# Altium footprint library SOT-23.PcbLib: 1 footprints
Each footprint in its own frame and in the unit in brackets; x right, y up, seen from the top. Pads: shape width x height; smd on the part's side, far side on the other; paste and mask are expansions set on the pad; w line width, h text height; cw(c..) or ccw(c..) is an arc to the next point about the centre after c.
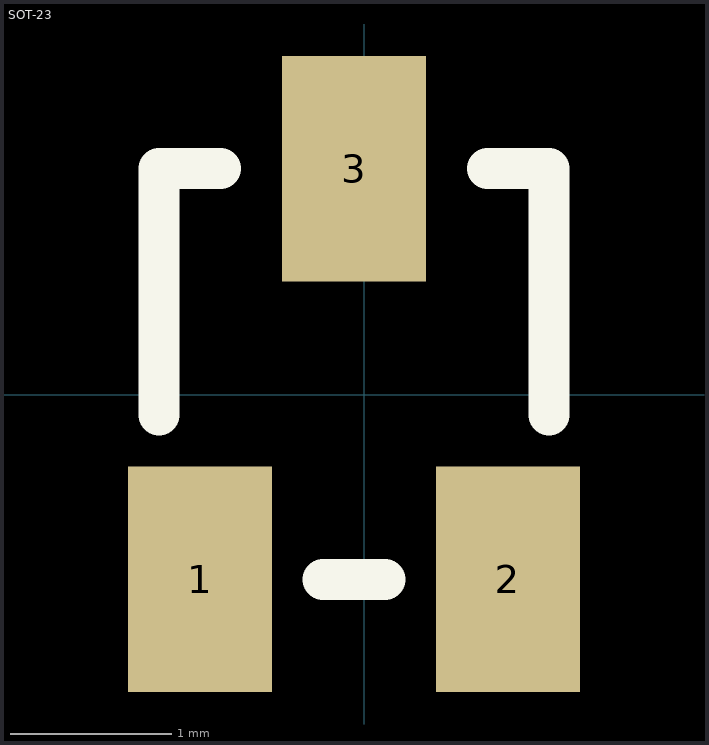
[diagram p0: the footprint, top view; thin cyan lines are the x and y axes]

## SOT-23 [mil]
pads (3):
  rect 35x55 smd: 1(-40,-45) 2(35,-45) 3(-2.5,55)
Top Overlay:
  lines w10: -50,-5 -50,55 -35,55 ; -10,-45 5,-45 ; 30,55 45,55 45,-5